# EAGLE library part WEACT_STM32G431COREBOARD (library _mtvl.cells)
WeActStudio.STM32G431CoreBoard https://github.com/WeActStudio/WeActStudio.STM32G431CoreBoard
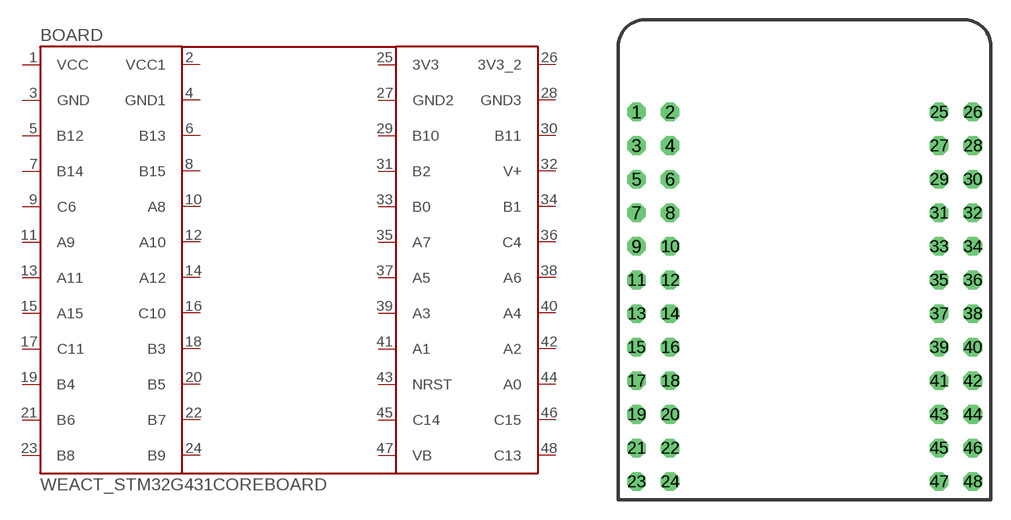
[diagram p9: symbol with the pads of WEACT_STM32G431COREBOARD; footprint WEACT_STM32G431COREBOARD]

Designator prefix BOARD

## WEACT_STM32G431COREBOARD  [WEACT_STM32G431COREBOARD]
1  VCC  pwr
2  VCC1  pwr
3  GND  pwr
4  GND1  pwr
5  B12
6  B13
7  B14
8  B15
9  C6
10  A8
11  A9
12  A10
13  A11
14  A12
15  A15
16  C10
17  C11
18  B3
19  B4
20  B5
21  B6
22  B7
23  B8
24  B9
25  3V3  sup
26  3V3_2  sup
27  GND2  pwr
28  GND3  pwr
29  B10
30  B11
31  B2
32  V+  sup
33  B0
34  B1
35  A7
36  C4
37  A5
38  A6
39  A3
40  A4
41  A1
42  A2
43  NRST
44  A0
45  C14
46  C15
47  VB  sup
48  C13

## Footprint WEACT_STM32G431COREBOARD (pad centres in mm)
drill 0.9 octagon: 1 -12.7,11.43; 2 -10.16,11.43; 3 -12.7,8.89; 4 -10.16,8.89; 5 -12.7,6.35; 6 -10.16,6.35; 7 -12.7,3.81; 8 -10.16,3.81; 9 -12.7,1.27; 10 -10.16,1.27; 11 -12.7,-1.27; 12 -10.16,-1.27; 13 -12.7,-3.81; 14 -10.16,-3.81; 15 -12.7,-6.35; 16 -10.16,-6.35; 17 -12.7,-8.89; 18 -10.16,-8.89; 19 -12.7,-11.43; 20 -10.16,-11.43; 21 -12.7,-13.97; 22 -10.16,-13.97; 23 -12.7,-16.51; 24 -10.16,-16.51; 25 10.16,11.43; 26 12.7,11.43; 27 10.16,8.89; 28 12.7,8.89; 29 10.16,6.35; 30 12.7,6.35; 31 10.16,3.81; 32 12.7,3.81; 33 10.16,1.27; 34 12.7,1.27; 35 10.16,-1.27; 36 12.7,-1.27; 37 10.16,-3.81; 38 12.7,-3.81; 39 10.16,-6.35; 40 12.7,-6.35; 41 10.16,-8.89; 42 12.7,-8.89; 43 10.16,-11.43; 44 12.7,-11.43; 45 10.16,-13.97; 46 12.7,-13.97; 47 10.16,-16.51; 48 12.7,-16.51